# EAGLE library part TITAN_X1_GPS (library SparkX)
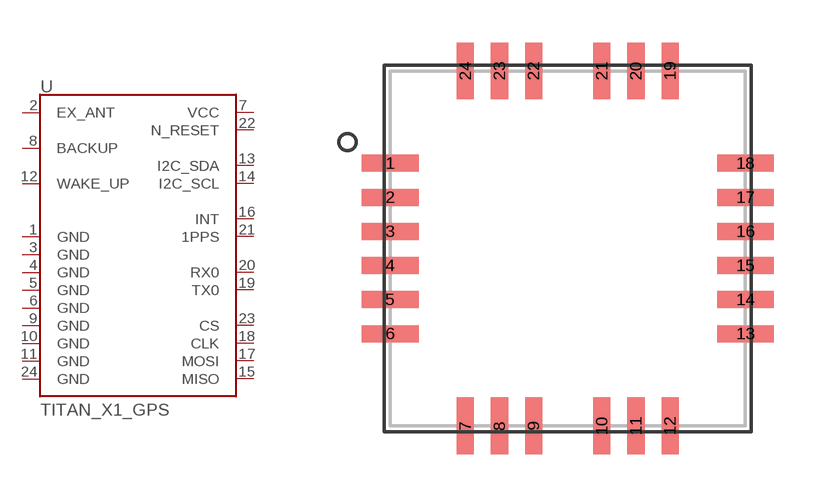
[diagram p0: symbol with the pads of TITAN_X1_GPS; footprint TITAN_X1_GPS]

Designator prefix -

## TITAN_X1_GPS  [TITAN_X1_GPS]
1  GND
2  EX_ANT
3  GND
4  GND
5  GND
6  GND
7  VCC
8  BACKUP
9  GND
10  GND
11  GND
12  WAKE_UP
13  I2C_SDA
14  I2C_SCL
15  MISO
16  INT
17  MOSI
18  CLK
19  TX0
20  RX0
21  1PPS
22  N_RESET
23  CS
24  GND

## Footprint TITAN_X1_GPS (pad centres in mm)
smd 2 x 0.6: 1 -6.35,2.9; 2 -6.35,1.7; 3 -6.35,0.5; 4 -6.35,-0.7; 5 -6.35,-1.9; 6 -6.35,-3.1; 13 6.15,-3.1; 14 6.15,-1.9; 15 6.15,-0.7; 16 6.15,0.5; 17 6.15,1.7; 18 6.15,2.9
smd 0.6 x 2: 7 -3.7,-6.35; 8 -2.5,-6.35; 9 -1.3,-6.35; 10 1.1,-6.35; 11 2.3,-6.35; 12 3.5,-6.35; 19 3.5,6.15; 20 2.3,6.15; 21 1.1,6.15; 22 -1.3,6.15; 23 -2.5,6.15; 24 -3.7,6.15